# Altium footprint library Supply.PcbLib: 13 footprints
Each footprint in its own frame and in the unit in brackets; x right, y up, seen from the top. Pads: shape width x height; smd on the part's side, far side on the other; paste and mask are expansions set on the pad; w line width, h text height; cw(c..) or ccw(c..) is an arc to the next point about the centre after c.
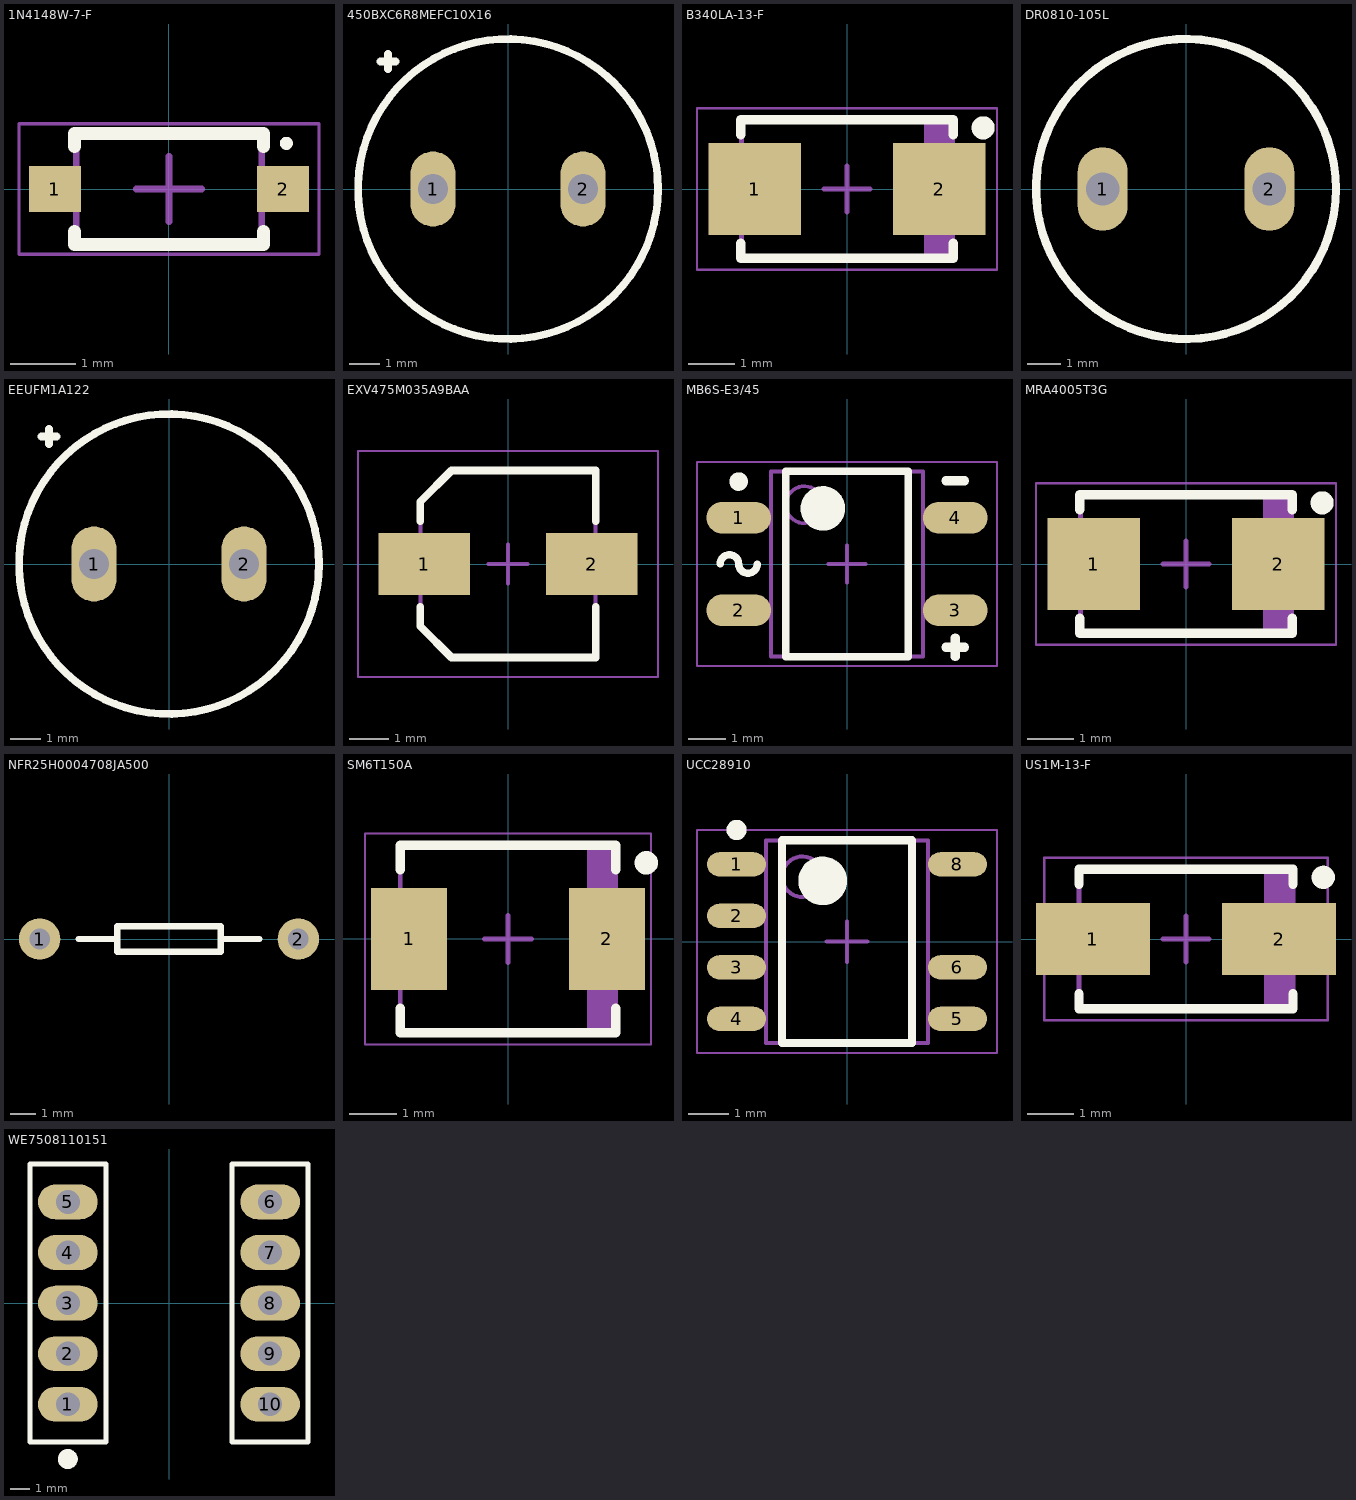
[diagram p0: the footprints below, top view; thin cyan lines are the x and y axes]

## 1N4148W-7-F [mm] "Diode - Standard, Switch, 1.25V, 300mA, 100V"
height 1.45
pads (2):
  rect 0.8x0.7 smd: 1(-1.75,0) 2(1.75,0)
Top Overlay:
  circle w0.1: c1.8,0.7 r0.05
  lines w0.2: -1.45,-0.65 -1.45,-0.85 1.45,-0.85 1.45,-0.65 ; -1.45,0.65 -1.45,0.85 1.45,0.85 1.45,0.65
Mechanical 13:
  lines w0.1: -1.425,-0.85 -1.425,0.85 1.425,0.85 1.425,-0.85 -1.425,-0.85
Mechanical 15:
  lines w0.05: -2.3,-1 -2.3,1 2.3,1 2.3,-1 -2.3,-1
  lines w0.1: -0.5,0 0.5,0 ; 0,-0.5 0,0.5
3D body: height 1.45, standoff 0, extent -1.425,-0.85 1.425,0.85

## 450BXC6R8MEFC10X16 [mm] "Capacitor - Electrolytic Capacitor, 6.8 uF, 450 V, 20%, 10 mm"
height 16
pads (2):
  oval 1.5x2.5 hole 1: 1(-2.5,0) 2(2.5,0)
Top Overlay:
  circle w0.254: c0,0 r5
  lines w0.254: -4.25,4.25 -3.75,4.25 ; -4,4 -4,4.5
3D body: height 1, standoff -2, extent 2.103,-0.399 2.9,0.399
3D body: height 1, standoff -2, extent -2.897,-0.399 -2.1,0.399
3D body: height 17, standoff 1, extent -4.992,-4.998 5,4.998

## B340LA-13-F [mm] "Diode - Schottky, 450mV, 3A, 40V"
height 2.2
pads (2):
  rect 2x2 smd: 1(-2,0) 2(2,0)
Top Overlay:
  circle w0.25: c2.95,1.325 r0.125
  lines w0.2: -2.3,-1.175 -2.3,-1.5 2.3,-1.5 2.3,-1.175 ; -2.3,1.175 -2.3,1.5 2.3,1.5 2.3,1.175
Mechanical 13:
  rectangle: 1.67,-1.46 2.285,1.46
  lines w0.1: -2.285,-1.46 2.285,-1.46 2.285,1.46 -2.285,1.46 -2.285,-1.46
Mechanical 15:
  lines w0.05: -3.25,-1.75 3.25,-1.75 3.25,1.75 -3.25,1.75 -3.25,-1.75
  lines w0.1: -0.5,0 0.5,0 ; 0,-0.5 0,0.5
3D body: height 2.2, standoff 0, extent -2.285,-1.46 2.285,1.46

## DR0810-105L [mm] "Inductor - Power, 1 mH, 0.5 A Sat. Current, 10%"
height 12
pads (2):
  oval 1.5x2.5 hole 1: 1(-2.5,0) 2(2.5,0)
Top Overlay:
  circle w0.25: c0,0 r4.5
3D body: height 0.5, standoff -3.5, extent -2.798,-0.299 -2.2,0.3
3D body: height 0.5, standoff -3.5, extent 2.202,-0.299 2.8,0.3
3D body: height 2.5, standoff 0.5, extent -5.208,-5.239 5.25,5.24
3D body: height 10.5, standoff 2.5, extent -4.464,-4.491 4.5,4.491
3D body: height 12, standoff 10, extent -5.209,-5.239 5.25,5.24

## EEUFM1A122 [mm] "Capacitor - Electrolytic Capacitor, 1200 uF, 10 V, 20%, 10 mm"
height 20
pads (2):
  oval 1.5x2.5 hole 1: 1(-2.5,0) 2(2.5,0)
Top Overlay:
  circle w0.254: c0,0 r5
  lines w0.254: -4.25,4.25 -3.75,4.25 ; -4,4 -4,4.5
3D body: height 21, standoff 1, extent -4.99,-4.997 5,4.998
3D body: height 1, standoff -2, extent -2.897,-0.399 -2.1,0.399
3D body: height 1, standoff -2, extent 2.103,-0.399 2.9,0.399

## EXV475M035A9BAA [mm] "Capacitor - Electrolytic Capacitor, SMD, 4.7 uF, 35 V, 4 mm"
height 5.4
pads (2):
  rect 2.35x1.6 smd: 1(-2.15,0) 2(2.15,0)
Top Overlay:
  lines w0.2: -2.25,-1.1 -2.25,-1.6 -1.45,-2.4 2.25,-2.4 2.25,-1.1 ; -2.25,1.1 -2.25,1.6 -1.45,2.4 2.25,2.4 2.25,1.1
Mechanical 13:
  lines w0.1: -2.25,-1.6 -1.45,-2.4 2.25,-2.4 2.25,2.4 -1.45,2.4 -2.25,1.6 -2.25,-1.6
Mechanical 15:
  lines w0.05: -3.85,-2.9 -3.85,2.9 3.85,2.9 3.85,-2.9 -3.85,-2.9
  lines w0.1: -0.5,0 0.5,0 ; 0,-0.5 0,0.5
3D body: height 1.8, standoff 0, extent -2.25,-2.4 2.25,2.4
3D body: height 5.4, standoff 0, extent -2.25,-2.25 2.232,2.241

## MB6S-E3/45 [mm] "Diode - Bridge Rectifier, 600 V, 0.5 A"
height 2.9
pads (4):
  oval 1.75x0.85 smd: 1(-2.925,1.25) 2(-2.925,-1.25) 3(2.925,-1.25) 4(2.925,1.25)
Top Overlay:
  circle w0.25: c-2.925,2.225 r0.125
  circle w0.6: c-0.65,1.5 r0.3
  lines w0.2: -3.425,0 cw(c-3.175,0) -2.925,0 ccw(c-2.675,0) -2.425,0 ; -1.65,-2.5 -1.65,2.5 1.65,2.5 1.65,-2.5 -1.65,-2.5
  lines w0.25: 2.675,-2.25 3.175,-2.25 ; 2.675,2.25 3.175,2.25 ; 2.925,-2.5 2.925,-2
Mechanical 13:
  circle w0.1: c-1.15,1.6 r0.5
  lines w0.1: -2.05,-2.5 -2.05,2.5 2.05,2.5 2.05,-2.5 -2.05,-2.5
Mechanical 15:
  lines w0.05: -4.05,-2.75 -4.05,2.75 4.05,2.75 4.05,-2.75 -4.05,-2.75
  lines w0.1: -0.5,0 0.5,0 ; 0,-0.5 0,0.5
3D body: height 2.9, standoff 0.1, extent -2.05,-2.5 2.05,2.5

## MRA4005T3G [mm] "Diode - Standard, 1.1V, 1A, 600V"
height 2.2
pads (2):
  rect 2x2 smd: 1(-2,0) 2(2,0)
Top Overlay:
  circle w0.25: c2.95,1.325 r0.125
  lines w0.2: -2.3,-1.175 -2.3,-1.5 2.3,-1.5 2.3,-1.175 ; -2.3,1.175 -2.3,1.5 2.3,1.5 2.3,1.175
Mechanical 13:
  rectangle: 1.67,-1.46 2.285,1.46
  lines w0.1: -2.285,-1.46 2.285,-1.46 2.285,1.46 -2.285,1.46 -2.285,-1.46
Mechanical 15:
  lines w0.05: -3.25,-1.75 3.25,-1.75 3.25,1.75 -3.25,1.75 -3.25,-1.75
  lines w0.1: -0.5,0 0.5,0 ; 0,-0.5 0,0.5
3D body: height 2.2, standoff 0, extent -2.285,-1.46 2.285,1.46

## NFR25H0004708JA500 [mm] "Resistor - Fusible, Non-flammable Resistor"
height 2.5
pads (2):
  round 1.6 hole 0.8: 1(-5,0) 2(5,0)
Top Overlay:
  lines w0.25: -3.5,0 -2,0 ; 2,0 3.5,0 ; -2,-0.5 -2,0.5 2,0.5 2,-0.5 -2,-0.5
3D body: height 1.5, standoff 1, extent 3.25,-0.25 4.75,0.25
3D body: height 1.5, standoff 1, extent -4.75,-0.25 -3.25,0.25
3D body: height 1.5, standoff -1.8, extent 4.75,-0.25 5.25,0.25
3D body: height 1.5, standoff -1.8, extent 4.75,-0.25 5.25,0.25
3D body: height 1.5, standoff -1.8, extent -5.25,-0.25 -4.75,0.25
3D body: height 2.5, standoff 0, extent -3.25,-1.249 3.25,1.249

## SM6T150A [mm] "TVS - Unidirectional, 150V, 600W"
height 2.5
pads (2):
  rect 1.62x2.18 smd: 1(-2.11,0) 2(2.11,0)
Top Overlay:
  circle w0.25: c2.95,1.625 r0.125
  lines w0.2: -2.3,-1.475 -2.3,-2 2.3,-2 2.3,-1.475 ; -2.3,1.475 -2.3,2 2.3,2 2.3,1.475
Mechanical 13:
  rectangle: 1.681,-1.975 2.3,1.975
  lines w0.1: -2.3,-1.975 -2.3,1.975 2.3,1.975 2.3,-1.975 -2.3,-1.975
Mechanical 15:
  lines w0.05: -3.05,-2.25 -3.05,2.25 3.05,2.25 3.05,-2.25 -3.05,-2.25
  lines w0.1: -0.5,0 0.5,0 ; 0,-0.5 0,0.5
3D body: height 2.5, standoff 0, extent -2.3,-1.975 2.3,1.975

## UCC28910 [mm] "IC - SMPS Flyback, 700V Flyback Switcher with Constant-Voltage/Constant-Current and Primary-Side Control"
height 1.75
pads (7):
  oval 1.45x0.6 smd: 1(-2.725,1.905) 2(-2.725,0.635) 3(-2.725,-0.635) 4(-2.725,-1.905) 5(2.725,-1.905) 6(2.725,-0.635) 8(2.725,1.905)
Top Overlay:
  circle w0.6: c-0.6,1.5 r0.3
  circle w0.25: c-2.725,2.755 r0.125
  lines w0.2: -1.6,-2.5 1.6,-2.5 1.6,2.5 -1.6,2.5 -1.6,-2.5
Mechanical 13:
  circle w0.1: c-1.1,1.6 r0.5
  lines w0.1: -2,-2.5 2,-2.5 2,2.5 -2,2.5 -2,-2.5
Mechanical 15:
  lines w0.05: -3.7,-2.75 3.7,-2.75 3.7,2.75 -3.7,2.75 -3.7,-2.75
  lines w0.1: -0.5,0 0.5,0 ; 0,-0.5 0,0.5
3D body: height 1.75, standoff 0.1, extent -2,-2.5 2,2.5

## US1M-13-F [mm] "Diode - Ultra-fast, 75 ns, 1.7V, 1A, 1000V"
height 2.4
pads (2):
  rect 2.45x1.55 smd: 1(-2,0) 2(2,0)
Top Overlay:
  circle w0.25: c2.95,1.325 r0.125
  lines w0.2: -2.3,-1.175 -2.3,-1.5 2.3,-1.5 2.3,-1.175 ; -2.3,1.175 -2.3,1.5 2.3,1.5 2.3,1.175
Mechanical 13:
  rectangle: 1.681,-1.46 2.3,1.46
  lines w0.1: -2.3,-1.46 -2.3,1.46 2.3,1.46 2.3,-1.46 -2.3,-1.46
Mechanical 15:
  lines w0.05: -3.05,-1.75 -3.05,1.75 3.05,1.75 3.05,-1.75 -3.05,-1.75
  lines w0.1: -0.5,0 0.5,0 ; 0,-0.5 0,0.5
3D body: height 2.4, standoff 0, extent -2.3,-1.46 2.3,1.46

## WE7508110151 [mm] "Transformer - Flyback/Offline Transformer"
height 12.7
pads (10):
  oval 3x1.75 hole 1.2: 1(-5.08,-5.08) 2(-5.08,-2.54) 3(-5.08,0) 4(-5.08,2.54) 5(-5.08,5.08) 6(5.08,5.08) 7(5.08,2.54) 8(5.08,0) 9(5.08,-2.54) 10(5.08,-5.08)
Top Overlay:
  circle w0.5: c-5.08,-7.83 r0.25
  lines w0.25: -6.985,-6.985 -6.985,6.985 -3.175,6.985 -3.175,-6.985 -6.985,-6.985 ; 3.175,-6.985 6.985,-6.985 6.985,6.985 3.175,6.985 3.175,-6.985
3D body: height 12.7, standoff 10, extent -6.35,-6.35 6.35,6.35
3D body: height 10, standoff 5, extent -6.35,-6.35 6.35,6.35
3D body: height 4, standoff 1, extent 3.175,-6.985 6.985,6.985
3D body: height 4, standoff 1, extent -6.985,-6.985 -3.175,6.985
3D body: height 1, standoff 0, extent 3.175,6.35 6.985,6.985
3D body: height 1, standoff 0, extent 3.175,-6.985 6.985,-6.35
3D body: height 1, standoff 0, extent -6.985,6.35 -3.175,6.985
3D body: height 1, standoff 0, extent -6.985,-6.985 -3.175,-6.35
3D body: height 1, standoff -2.5, extent -5.33,-5.33 -4.83,-4.83
3D body: height 1, standoff -2.5, extent -5.33,-2.79 -4.83,-2.29
3D body: height 1, standoff -2.5, extent -5.33,-0.25 -4.83,0.25
3D body: height 1, standoff -2.5, extent -5.33,2.29 -4.83,2.79
3D body: height 1, standoff -2.5, extent -5.33,4.83 -4.83,5.33
3D body: height 1, standoff -2.5, extent 4.83,4.83 5.33,5.33
3D body: height 1, standoff -2.5, extent 4.83,2.29 5.33,2.79
3D body: height 1, standoff -2.5, extent 4.83,-0.25 5.33,0.25
3D body: height 1, standoff -2.5, extent 4.83,-2.79 5.33,-2.29
3D body: height 1, standoff -2.5, extent 4.83,-5.33 5.33,-4.83
3D body: height 5, standoff 4, extent -6.35,-6.35 6.35,6.35
3D body: height 12.7, standoff 12.7, extent -5.189,-5.193 -3.695,-3.696